# EAGLE library part ADAU1701JSTZ (library edrtech_lib)
DSP 28bit/56bit 50MHz 50MIPS Automotive 48-Pin LQFP Tray Check availability <https://pricing.snapeda.com/parts/ADAU1701JSTZ/Analog%20Devices/view-part?ref=eda>
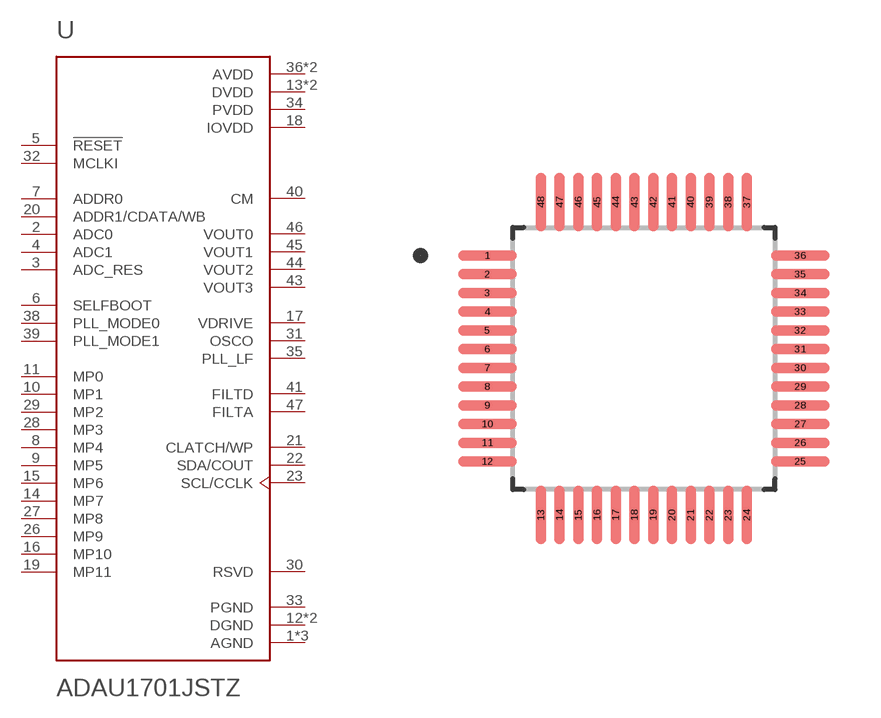
[diagram p19: symbol with the pads of QFP50P900X900X160-48N; footprint QFP50P900X900X160-48N]

Designator prefix U

## ADAU1701JSTZ (AVAILABILITY: In Stock; CHECK_PRICES: https://www.snapeda.com/parts/ADAU1701JSTZ/Analog+Devices/view-part/?ref=eda; DESCRIPTION: SigmaDSP® 28/56-Bit Audio Processor with Two ADCs and Four DACs; MF: Analog Devices; MP: ADAU1701JSTZ; PACKAGE: LQFP -48 Analog Devices; PRICE: None; PURCHASE-URL: https://www.snapeda.com/api/url_track_click_mouser/?unipart_id=293732&manufacturer=Analog Devices&part_name=ADAU1701JSTZ&search_term=adau1701; SNAPEDA_LINK: https://www.snapeda.com/parts/ADAU1701JSTZ/Analog+Devices/view-part/?ref=snap)  [QFP50P900X900X160-48N]
1  AGND  pwr
2  ADC0  in
3  ADC_RES  in
4  ADC1  in
5  !RESET  in
6  SELFBOOT  in
7  ADDR0  in
8  MP4
9  MP5
10  MP1
11  MP0
12  DGND  pwr
13  DVDD  pwr
14  MP7
15  MP6
16  MP10
17  VDRIVE  out
18  IOVDD  pwr
19  MP11
20  ADDR1/CDATA/WB  in
21  CLATCH/WP
22  SDA/COUT
23  SCL/CCLK
24  DVDD  pwr
25  DGND  pwr
26  MP9
27  MP8
28  MP3
29  MP2
30  RSVD  pas
31  OSCO  out
32  MCLKI  in
33  PGND  pwr
34  PVDD  pwr
35  PLL_LF  out
36  AVDD  pwr
37  AGND  pwr
38  PLL_MODE0  in
39  PLL_MODE1  in
40  CM  out
41  FILTD  out
42  AGND  pwr
43  VOUT3  out
44  VOUT2  out
45  VOUT1  out
46  VOUT0  out
47  FILTA  out
48  AVDD  pwr

## Footprint QFP50P900X900X160-48N (pad centres in mm)
smd 1.56 x 0.28: 1 -4.18,2.75; 2 -4.18,2.25; 3 -4.18,1.75; 4 -4.18,1.25; 5 -4.18,0.75; 6 -4.18,0.25; 7 -4.18,-0.25; 8 -4.18,-0.75; 9 -4.18,-1.25; 10 -4.18,-1.75; 11 -4.18,-2.25; 12 -4.18,-2.75; 25 4.18,-2.75; 26 4.18,-2.25; 27 4.18,-1.75; 28 4.18,-1.25; 29 4.18,-0.75; 30 4.18,-0.25; 31 4.18,0.25; 32 4.18,0.75; 33 4.18,1.25; 34 4.18,1.75; 35 4.18,2.25; 36 4.18,2.75
smd 0.28 x 1.56: 13 -2.75,-4.18; 14 -2.25,-4.18; 15 -1.75,-4.18; 16 -1.25,-4.18; 17 -0.75,-4.18; 18 -0.25,-4.18; 19 0.25,-4.18; 20 0.75,-4.18; 21 1.25,-4.18; 22 1.75,-4.18; 23 2.25,-4.18; 24 2.75,-4.18; 37 2.75,4.18; 38 2.25,4.18; 39 1.75,4.18; 40 1.25,4.18; 41 0.75,4.18; 42 0.25,4.18; 43 -0.25,4.18; 44 -0.75,4.18; 45 -1.25,4.18; 46 -1.75,4.18; 47 -2.25,4.18; 48 -2.75,4.18